# EAGLE library part BTS5016-2EKA (library mosfet-infineon)
BTS5016-2EKA Smart High-Side Power Switch, Dual Channel, 16mOhm SOIC127P600X170-15N
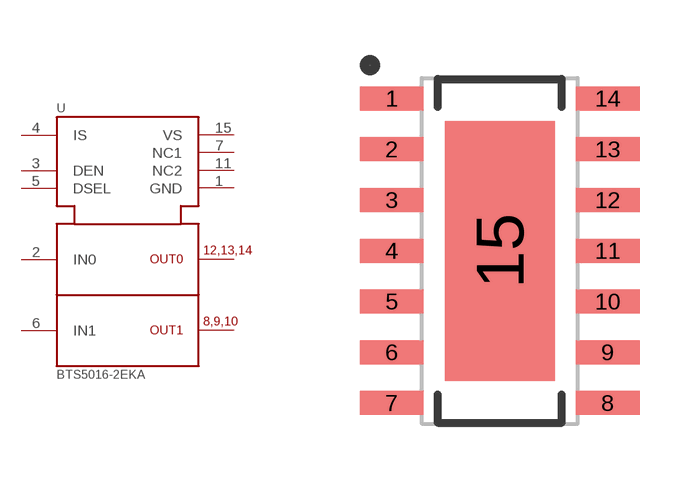
[diagram p54: symbol with the pads of SOIC127P600X170-15N; footprint SOIC127P600X170-15N]

Designator prefix U

## BTS5016-2EKA  [SOIC127P600X170-15N]
1  GND  pwr
2  IN0  in
3  DEN  in
4  IS  in
5  DSEL  in
6  IN1  in
7  NC1  pas
8  OUT1  out
9  OUT1  out
10  OUT1  out
11  NC2  pas
12  OUT0  out
13  OUT0  out
14  OUT0  out
15  VS  pwr

## Footprint SOIC127P600X170-15N (pad centres in mm)
Original name SOIC127P600X170-15N Max Component Height - 1.7mm
smd 1.6 x 0.6: 1 -2.7,3.81; 2 -2.7,2.54; 3 -2.7,1.27; 4 -2.7,0; 5 -2.7,-1.27; 6 -2.7,-2.54; 7 -2.7,-3.81; 8 2.7,-3.81; 9 2.7,-2.54; 10 2.7,-1.27; 11 2.7,0; 12 2.7,1.27; 13 2.7,2.54; 14 2.7,3.81
smd 2.75 x 6.5: 15 0,0